# Altium footprint library Main.PcbLib: 3 footprints
Each footprint in its own frame and in the unit in brackets; x right, y up, seen from the top. Pads: shape width x height; smd on the part's side, far side on the other; paste and mask are expansions set on the pad; w line width, h text height; cw(c..) or ccw(c..) is an arc to the next point about the centre after c.
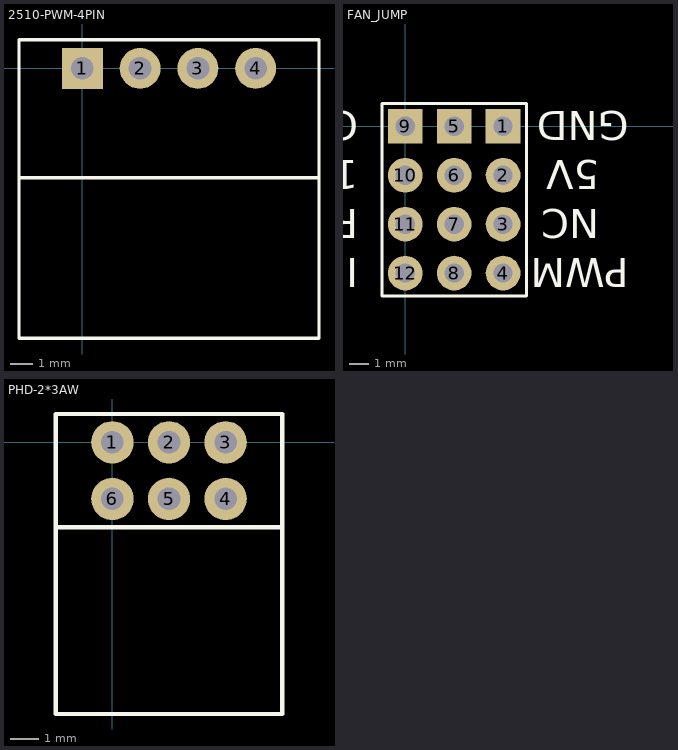
[diagram p0: the footprints below, top view; thin cyan lines are the x and y axes]

## 2510-PWM-4PIN [mm]
pads (4):
  rect 1.8x1.8 hole 1: 1(0,0)
  round 1.8 hole 1: 2(2.54,0) 3(5.08,0) 4(7.62,0)
Top Overlay:
  lines w0.152: -2.78,-4.8 10.4,-4.8 ; -2.78,-11.85 -2.78,1.25 10.4,1.25 10.4,-11.85 -2.78,-11.85

## FAN_JUMP [mm]
pads (12):
  rect 1.8x1.8 hole 1: 1(5.08,0) 5(2.54,0) 9(0,0)
  round 1.8 hole 1: 2(5.08,-2.54) 3(5.08,-5.08) 4(5.08,-7.62) 6(2.54,-2.54) 7(2.54,-5.08) 8(2.54,-7.62) 10(0,-2.54) 11(0,-5.08) 12(0,-7.62)
Top Overlay:
  lines w0.152: -1.21,-8.81 -1.21,1.19 6.29,1.19 6.29,-8.81 -1.21,-8.81
  text "IPWM" at -2.453,-6.844 h1.52
  text "RD_ON" at -2.453,-4.304 h1.52
  text "12V" at -2.453,-1.764 h1.52
  text "GND" at -2.453,0.776 h1.52
  text "GND" at 11.6,0.776 h1.52
  text "5V" at 10.076,-1.764 h1.52
  text "NC" at 10.076,-4.304 h1.52
  text "PWM" at 11.6,-6.844 h1.52

## PHD-2*3AW [mm]
pads (6):
  round 1.5 hole 0.8: 1(0,0) 2(2,0) 3(4,0) 4(4,-2) 5(2,-2) 6(0,-2)
Top Overlay:
  lines w0.152: -2,-3 6,-3 ; -2,-9.6 -2,1 -1.5,1 6,1 6,-9.6 -2,-9.6